# Altium schematic symbol library DS90LV048.SchLib: 1 symbol
Pins are listed as number, name and electrical type; pins without a type are passive.

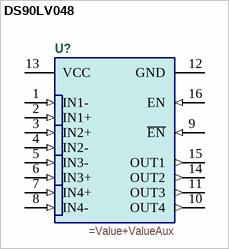
[diagram p0: symbol DS90LV048]

## DS90LV048
designator U?
=Description
pins: 1 IN1- (in), 2 IN1+ (in), 3 IN2+ (in), 4 IN2- (in), 5 IN3- (in), 6 IN3+ (in), 7 IN4+ (in), 8 IN4- (in), 9 ~{EN} (in), 10 OUT4 (out), 11 OUT3 (out), 12 GND (power), 13 VCC (power), 14 OUT2 (out), 15 OUT1 (out), 16 EN (in)